# Altium footprint library Other components.PcbLib: 1 footprints
Each footprint in its own frame and in the unit in brackets; x right, y up, seen from the top. Pads: shape width x height; smd on the part's side, far side on the other; paste and mask are expansions set on the pad; w line width, h text height; cw(c..) or ccw(c..) is an arc to the next point about the centre after c.
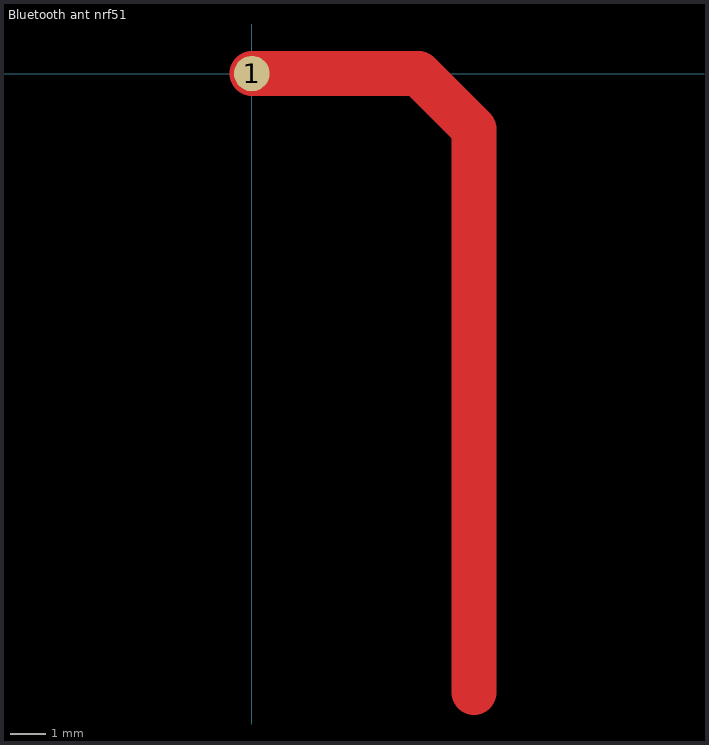
[diagram p0: the footprint, top view; thin cyan lines are the x and y axes]

## Bluetooth ant nrf51 [mm]
pads (1):
  round 1 smd: 1(0,0)
Top Layer:
  lines w1.27: 0,0 4.689,0 6.248,-1.559 6.248,-17.401